# EAGLE library part LT6100 (library lichtenstein_onion)
Precision, Gain Selectable High Side Current Sense Amplifier Datasheet <https://www.analog.com/media/en/technical-documentation/data-sheets/6100fd.pdf>
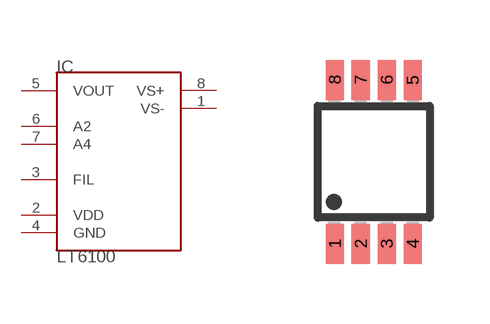
[diagram p24: symbol with the pads of MSOP8; footprint MSOP8]

Designator prefix IC

## LT6100MSOP-8 (MOUSER: 584-LT6100CMS8#PBF)  [MSOP8]
1  VS-
2  VDD  pwr
3  FIL
4  GND  pwr
5  VOUT
6  A2
7  A4
8  VS+

## Footprint MSOP8 (pad centres in mm)
Micro Small Outline Package
smd 0.45 x 1: 1 -0.975,-2.05; 2 -0.325,-2.05; 3 0.325,-2.05; 4 0.975,-2.05; 5 0.975,2.05; 6 0.325,2.05; 7 -0.325,2.05; 8 -0.975,2.05